# EAGLE library part HEADER (library paper_tape)
11-pin header
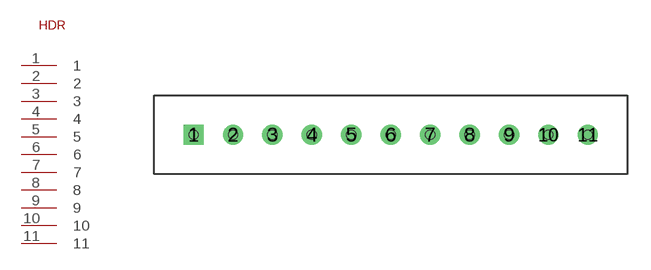
[diagram p4: symbol with the pads of SIP11; footprint SIP11]

Designator prefix HDR

## HEADER  [SIP11]
1  1
2  2
3  3
4  4
5  5
6  6
7  7
8  8
9  9
10  10
11  11

## Footprint SIP11 (pad centres in mm)
drill 0.8 square: 1 -12.7,0
drill 0.8: 2 -10.16,0; 3 -7.62,0; 4 -5.08,0; 5 -2.54,0; 6 0,0; 7 2.54,0; 8 5.08,0; 9 7.62,0; 10 10.16,0; 11 12.7,0
hole 0.6 at -12.7,0
hole 0.6 at -10.16,0
hole 0.6 at -7.62,0
hole 0.6 at -5.08,0
hole 0.6 at -2.54,0
hole 0.6 at 0,0
hole 0.6 at 2.54,0
hole 0.6 at 5.08,0
hole 0.6 at 7.62,0
hole 0.6 at 10.16,0
hole 0.6 at 12.7,0